# Altium integrated library NSC DAC.IntLib: 136 symbols (part 1 of 4)
Pins are listed as number, name and electrical type; pins without a type are passive.

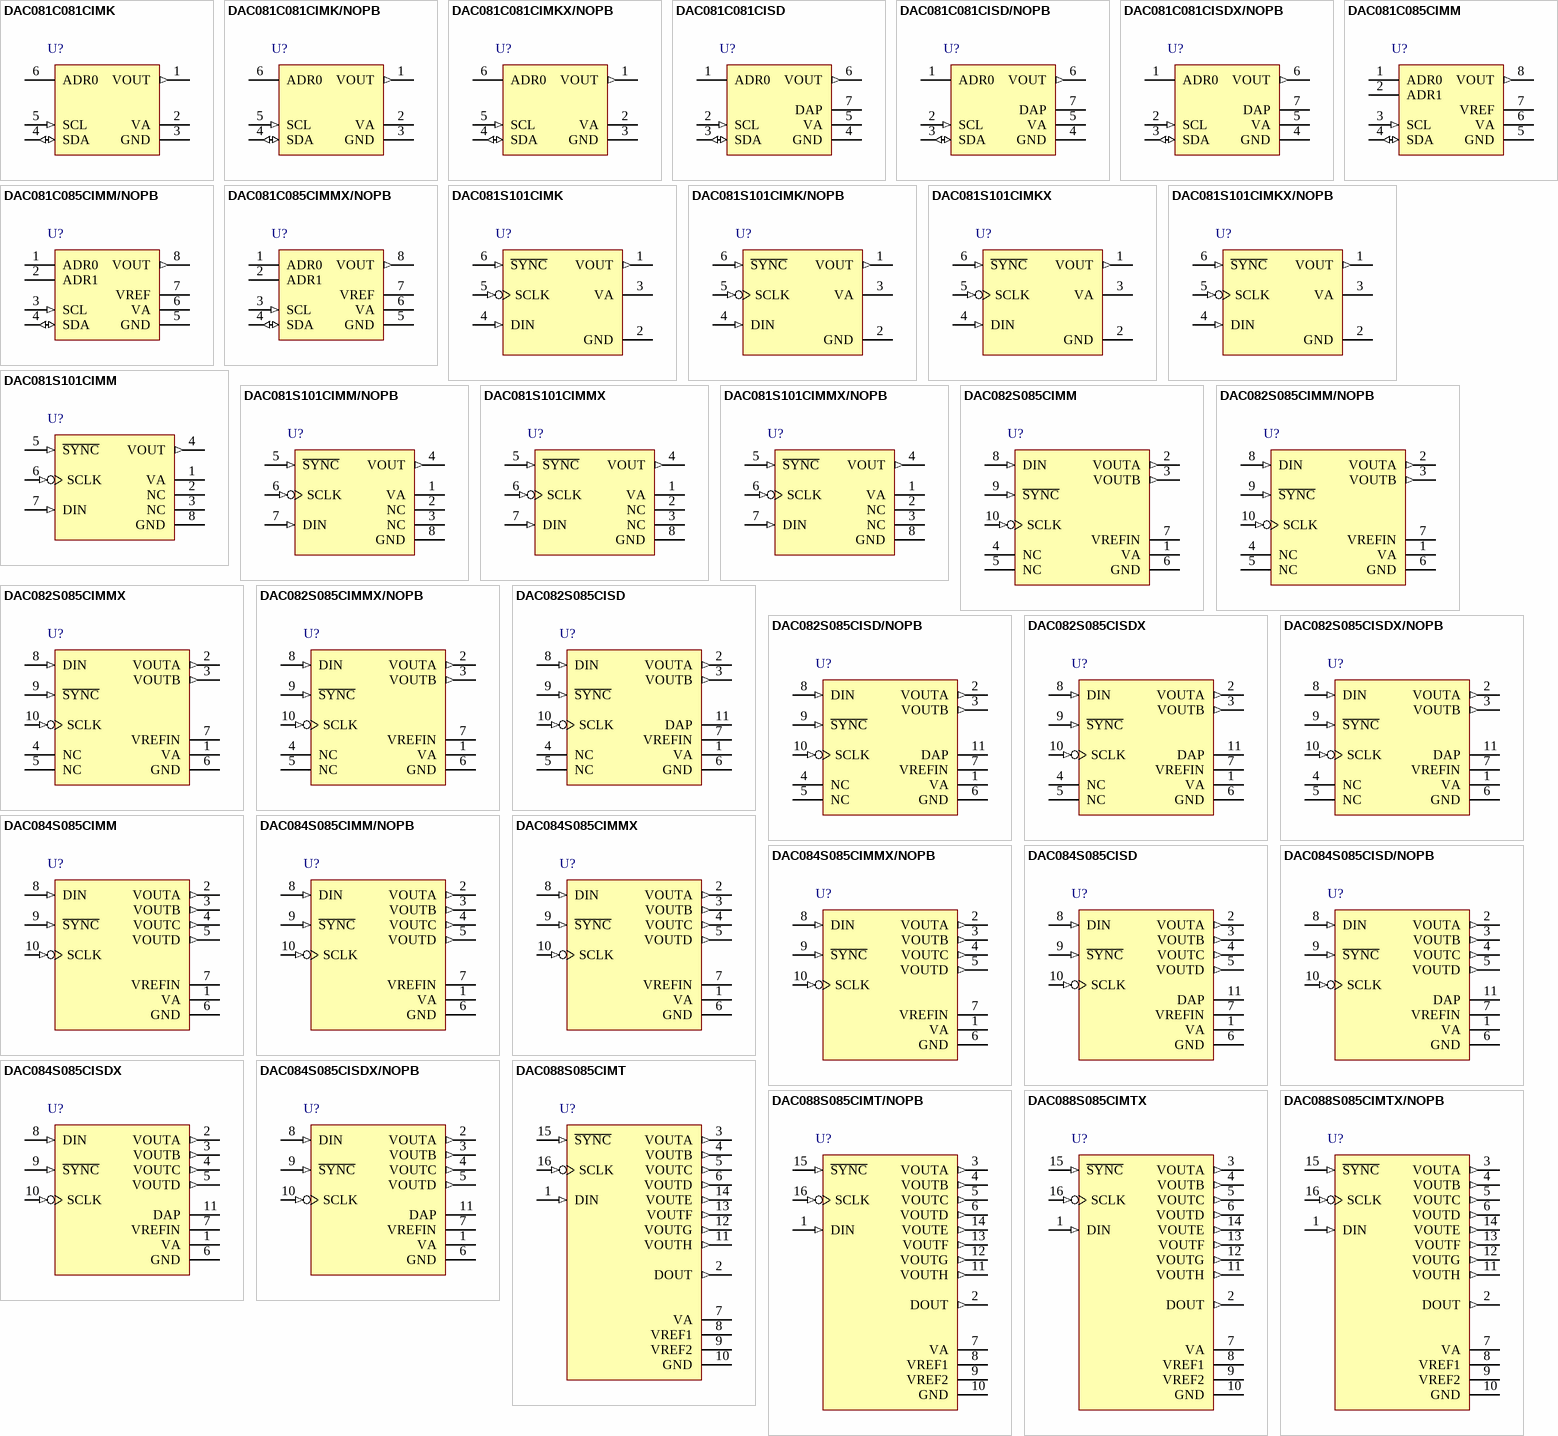
[diagram p0: symbols DAC081C081CIMK to DAC088S085CIMTX/NOPB]

## DAC081C081CIMK
designator U?
8-Bit Micro Power Digital-to-Analog Converter with an I2C-Compatible Interface, 6-pin Tiny SOT23; PartNumber: DAC081C081CIMK; Manufacturer: National Semiconductor; PackageTopMarking: X86C*XTT; PowerWise: N; CompType: D/A Converter; Published: 4-Dec-2008; DatasheetVersion: Apr-2008; PackageVersion: revE, Nov-2008; PackageReference: MK06A; Publisher: Altium Limited; PackageDescription: Molded TSOT, 2.97 x 1.65 x 0.87mm Body, 6 Lead, 0.95mm Pitch; RoHS: Y; PinCount: 6; Code_JEDEC: MO-193-AA; Code_IPC: SOT26A-6; ComponentLink1Description: DAC081C081 Datasheet; ComponentLink1URL: http://www.national.com/ds/DA/DAC081C081.pdf; ComponentLink2Description: DAC081C081 Web Page; ComponentLink2URL: http://www.national.com/pf/DA/DAC081C081.html; ComponentLink3Description: MK06A Package Page; ComponentLink3URL: http://www.national.com/packaging/folders/mk06a.html
footprint MK06A_N (SOT23, 6-Leads, Body 3.0x1.7mm, Pitch 0.95mm, Lead Span 2.9mm, IPC Medium Density)
footprint MK06A_L (SOT23, 6-Leads, Body 3.0x1.7mm, Pitch 0.95mm, Lead Span 2.9mm, IPC High Density)
footprint MK06A_M (SOT23, 6-Leads, Body 3.0x1.7mm, Pitch 0.95mm, Lead Span 2.9mm, IPC Low Density)
pins: 1 VOUT (out), 2 VA (power), 3 GND (power), 4 SDA (io), 5 SCL (in), 6 ADR0 (hiz)

## DAC081C081CIMK/NOPB
designator U?
8-Bit Micro Power Digital-to-Analog Converter with an I2C-Compatible Interface, 6-pin Tiny SOT23, Pb-Free; PartNumber: DAC081C081CIMK/NOPB; Manufacturer: National Semiconductor; PackageTopMarking: X86C*XTT; PowerWise: N; CompType: D/A Converter; Published: 1-Mar-2010; DatasheetVersion: Apr-2008; PackageVersion: revE, Nov-2008; PackageReference: MK06A; Publisher: Altium Limited; PackageDescription: Molded TSOT, 2.97 x 1.65 x 0.87mm Body, 6 Lead, 0.95mm Pitch; Supplier 1: Digi-Key; Supplier Part Number 1: DAC081C081CIMKTR-ND; Supplier 2: Digi-Key; Supplier Part Number 2: DAC081C081CIMKCT-ND; Supplier 3: Digi-Key; Supplier Part Number 3: DAC081C081CIMKDKR-ND; Supplier 4: Farnell; Supplier Part Number 4: 1685396; RoHS: Y; PinCount: 6; Code_JEDEC: MO-193-AA; Code_IPC: SOT26A-6; ComponentLink1Description: DAC081C081 Datasheet; ComponentLink1URL: http://www.national.com/ds/DA/DAC081C081.pdf; ComponentLink2Description: DAC081C081 Web Page; ComponentLink2URL: http://www.national.com/pf/DA/DAC081C081.html; ComponentLink3Description: MK06A Package Page; ComponentLink3URL: http://www.national.com/packaging/folders/mk06a.html
footprint MK06A_N (SOT23, 6-Leads, Body 3.0x1.7mm, Pitch 0.95mm, Lead Span 2.9mm, IPC Medium Density)
footprint MK06A_L (SOT23, 6-Leads, Body 3.0x1.7mm, Pitch 0.95mm, Lead Span 2.9mm, IPC High Density)
footprint MK06A_M (SOT23, 6-Leads, Body 3.0x1.7mm, Pitch 0.95mm, Lead Span 2.9mm, IPC Low Density)
pins: 1 VOUT (out), 2 VA (power), 3 GND (power), 4 SDA (io), 5 SCL (in), 6 ADR0 (hiz)

## DAC081C081CIMKX/NOPB
designator U?
8-Bit Micro Power Digital-to-Analog Converter with an I2C-Compatible Interface, 6-pin Tiny SOT23, Pb-Free; PartNumber: DAC081C081CIMKX/NOPB; Manufacturer: National Semiconductor; PackageTopMarking: X86C*XTT; PowerWise: N; CompType: D/A Converter; Published: 1-Mar-2010; DatasheetVersion: Apr-2008; PackageVersion: revE, Nov-2008; PackageReference: MK06A; Publisher: Altium Limited; PackageDescription: Molded TSOT, 2.97 x 1.65 x 0.87mm Body, 6 Lead, 0.95mm Pitch; Supplier 1: Digi-Key; Supplier Part Number 1: DAC081C081CIMKX-ND; RoHS: Y; PinCount: 6; Code_JEDEC: MO-193-AA; Code_IPC: SOT26A-6; ComponentLink1Description: DAC081C081 Datasheet; ComponentLink1URL: http://www.national.com/ds/DA/DAC081C081.pdf; ComponentLink2Description: DAC081C081 Web Page; ComponentLink2URL: http://www.national.com/pf/DA/DAC081C081.html; ComponentLink3Description: MK06A Package Page; ComponentLink3URL: http://www.national.com/packaging/folders/mk06a.html
footprint MK06A_N (SOT23, 6-Leads, Body 3.0x1.7mm, Pitch 0.95mm, Lead Span 2.9mm, IPC Medium Density)
footprint MK06A_L (SOT23, 6-Leads, Body 3.0x1.7mm, Pitch 0.95mm, Lead Span 2.9mm, IPC High Density)
footprint MK06A_M (SOT23, 6-Leads, Body 3.0x1.7mm, Pitch 0.95mm, Lead Span 2.9mm, IPC Low Density)
pins: 1 VOUT (out), 2 VA (power), 3 GND (power), 4 SDA (io), 5 SCL (in), 6 ADR0 (hiz)

## DAC081C081CISD
designator U?
8-Bit Micro Power Digital-to-Analog Converter with an I2C-Compatible Interface, 7-pin LLP; PartNumber: DAC081C081CISD; Manufacturer: National Semiconductor; PackageTopMarking: XTT*X89; PowerWise: N; CompType: D/A Converter; Published: 4-Dec-2008; DatasheetVersion: Apr-2008; PackageVersion: revA, Nov-2003; PackageReference: SDB06A; Publisher: Altium Limited; PackageDescription: LLP, Plastic, Dual, 2.2 x 2.5 x 0.8mm Body, 6 Lead, 0.65mm Pitch, No Pullback; RoHS: Y; PinCount: 7; ComponentLink1Description: DAC081C081 Datasheet; ComponentLink1URL: http://www.national.com/ds/DA/DAC081C081.pdf; ComponentLink2Description: DAC081C081 Web Page; ComponentLink2URL: http://www.national.com/pf/DA/DAC081C081.html; ComponentLink3Description: SDB06A Package Page; ComponentLink3URL: http://www.national.com/packaging/folders/sdb06a.html
footprint SDB06A (SON, 6-Leads, Body 2.2x2.5mm, Pitch 0.65mm, NSC Recommended (SC-70 Land))
pins: 1 ADR0 (hiz), 2 SCL (in), 3 SDA (io), 4 GND (power), 5 VA (power), 6 VOUT (out), 7 DAP (power)

## DAC081C081CISD/NOPB
designator U?
8-Bit Micro Power Digital-to-Analog Converter with an I2C-Compatible Interface, 6-pin LLP, Pb-Free; PartNumber: DAC081C081CISD/NOPB; Manufacturer: National Semiconductor; PackageTopMarking: XTT*X89; PowerWise: N; CompType: D/A Converter; Published: 1-Mar-2010; DatasheetVersion: Apr-2008; PackageVersion: revA, Nov-2003; PackageReference: SDB06A; Publisher: Altium Limited; PackageDescription: LLP, Plastic, Dual, 2.2 x 2.5 x 0.8mm Body, 6 Lead, 0.65mm Pitch, No Pullback; Supplier 1: Digi-Key; Supplier Part Number 1: DAC081C081CISDTR-ND; Supplier 2: Digi-Key; Supplier Part Number 2: DAC081C081CISDCT-ND; Supplier 3: Digi-Key; Supplier Part Number 3: DAC081C081CISDDKR-ND; RoHS: Y; PinCount: 6; ComponentLink1Description: DAC081C081 Datasheet; ComponentLink1URL: http://www.national.com/ds/DA/DAC081C081.pdf; ComponentLink2Description: DAC081C081 Web Page; ComponentLink2URL: http://www.national.com/pf/DA/DAC081C081.html; ComponentLink3Description: SDB06A Package Page; ComponentLink3URL: http://www.national.com/packaging/folders/sdb06a.html
footprint SDB06A (SON, 6-Leads, Body 2.2x2.5mm, Pitch 0.65mm, NSC Recommended (SC-70 Land))
pins: 1 ADR0 (hiz), 2 SCL (in), 3 SDA (io), 4 GND (power), 5 VA (power), 6 VOUT (out), 7 DAP (power)

## DAC081C081CISDX/NOPB
designator U?
8-Bit Micro Power Digital-to-Analog Converter with an I2C-Compatible Interface, 6-pin LLP, Pb-Free; PartNumber: DAC081C081CISDX/NOPB; Manufacturer: National Semiconductor; PackageTopMarking: XTT*X89; PowerWise: N; CompType: D/A Converter; Published: 1-Mar-2010; DatasheetVersion: Apr-2008; PackageVersion: revA, Nov-2003; PackageReference: SDB06A; Publisher: Altium Limited; PackageDescription: LLP, Plastic, Dual, 2.2 x 2.5 x 0.8mm Body, 6 Lead, 0.65mm Pitch, No Pullback; Supplier 1: Digi-Key; Supplier Part Number 1: DAC081C081CISDX-ND; RoHS: Y; PinCount: 6; ComponentLink1Description: DAC081C081 Datasheet; ComponentLink1URL: http://www.national.com/ds/DA/DAC081C081.pdf; ComponentLink2Description: DAC081C081 Web Page; ComponentLink2URL: http://www.national.com/pf/DA/DAC081C081.html; ComponentLink3Description: SDB06A Package Page; ComponentLink3URL: http://www.national.com/packaging/folders/sdb06a.html
footprint SDB06A (SON, 6-Leads, Body 2.2x2.5mm, Pitch 0.65mm, NSC Recommended (SC-70 Land))
pins: 1 ADR0 (hiz), 2 SCL (in), 3 SDA (io), 4 GND (power), 5 VA (power), 6 VOUT (out), 7 DAP (power)

## DAC081C085CIMM
designator U?
8-Bit Micro Power Digital-to-Analog Converter with an I2C-Compatible Interface and External Reference, 8-pin Mini SOIC; PartNumber: DAC081C085CIMM; Manufacturer: National Semiconductor; PackageTopMarking: ZXTT*X92C; PowerWise: N; CompType: D/A Converter; Published: 4-Dec-2008; DatasheetVersion: Apr-2008; PackageVersion: revF, Apr-2008; PackageReference: MUA08A; Publisher: Altium Limited; PackageDescription: MINI SOIC, .118 x .118 x .034in, 8 Lead, .0256in Pitch; RoHS: Y; PinCount: 8; Code_JEDEC: MO-187-AA; ComponentLink1Description: DAC081C085 Datasheet; ComponentLink1URL: http://www.national.com/ds/DA/DAC081C085.pdf; ComponentLink2Description: DAC081C085 Web Page; ComponentLink2URL: http://www.national.com/pf/DA/DAC081C085.html; ComponentLink3Description: MUA08A Package Page; ComponentLink3URL: http://www.national.com/packaging/folders/mua08a.html
footprint MUA08A_N (TSOP, 8-Leads, Body 3x3mm, Pitch 0.65mm, IPC Medium Density)
footprint MUA08A_L (TSOP, 8-Leads, Body 3x3mm, Pitch 0.65mm, IPC High Density)
footprint MUA08A_M (TSOP, 8-Leads, Body 3x3mm, Pitch 0.65mm, IPC Low Density)
pins: 1 ADR0 (hiz), 2 ADR1 (hiz), 3 SCL (in), 4 SDA (io), 5 GND (power), 6 VA (power), 7 VREF (power), 8 VOUT (out)

## DAC081C085CIMM/NOPB
designator U?
8-Bit Micro Power Digital-to-Analog Converter with an I2C-Compatible Interface and External Reference, 8-pin Mini SOIC, Pb-Free; PartNumber: DAC081C085CIMM/NOPB; Manufacturer: National Semiconductor; PackageTopMarking: ZXTT*X92C; PowerWise: N; CompType: D/A Converter; Published: 1-Mar-2010; DatasheetVersion: Apr-2008; PackageVersion: revF, Apr-2008; PackageReference: MUA08A; Publisher: Altium Limited; PackageDescription: MINI SOIC, .118 x .118 x .034in, 8 Lead, .0256in Pitch; Supplier 1: Digi-Key; Supplier Part Number 1: DAC081C085CIMMTR-ND; Supplier 2: Digi-Key; Supplier Part Number 2: DAC081C085CIMMCT-ND; Supplier 3: Digi-Key; Supplier Part Number 3: DAC081C085CIMMDKR-ND; Supplier 4: Farnell; Supplier Part Number 4: 1685397; RoHS: Y; PinCount: 8; Code_JEDEC: MO-187-AA; ComponentLink1Description: DAC081C085 Datasheet; ComponentLink1URL: http://www.national.com/ds/DA/DAC081C085.pdf; ComponentLink2Description: DAC081C085 Web Page; ComponentLink2URL: http://www.national.com/pf/DA/DAC081C085.html; ComponentLink3Description: MUA08A Package Page; ComponentLink3URL: http://www.national.com/packaging/folders/mua08a.html
footprint MUA08A_N (TSOP, 8-Leads, Body 3x3mm, Pitch 0.65mm, IPC Medium Density)
footprint MUA08A_L (TSOP, 8-Leads, Body 3x3mm, Pitch 0.65mm, IPC High Density)
footprint MUA08A_M (TSOP, 8-Leads, Body 3x3mm, Pitch 0.65mm, IPC Low Density)
pins: 1 ADR0 (hiz), 2 ADR1 (hiz), 3 SCL (in), 4 SDA (io), 5 GND (power), 6 VA (power), 7 VREF (power), 8 VOUT (out)

## DAC081C085CIMMX/NOPB
designator U?
8-Bit Micro Power Digital-to-Analog Converter with an I2C-Compatible Interface and External Reference, 8-pin Mini SOIC, Pb-Free; PartNumber: DAC081C085CIMMX/NOPB; Manufacturer: National Semiconductor; PackageTopMarking: ZXTT*X92C; PowerWise: N; CompType: D/A Converter; Published: 1-Mar-2010; DatasheetVersion: Apr-2008; PackageVersion: revF, Apr-2008; PackageReference: MUA08A; Publisher: Altium Limited; PackageDescription: MINI SOIC, .118 x .118 x .034in, 8 Lead, .0256in Pitch; Supplier 1: Digi-Key; Supplier Part Number 1: DAC081C085CIMMX-ND; RoHS: Y; PinCount: 8; Code_JEDEC: MO-187-AA; ComponentLink1Description: DAC081C085 Datasheet; ComponentLink1URL: http://www.national.com/ds/DA/DAC081C085.pdf; ComponentLink2Description: DAC081C085 Web Page; ComponentLink2URL: http://www.national.com/pf/DA/DAC081C085.html; ComponentLink3Description: MUA08A Package Page; ComponentLink3URL: http://www.national.com/packaging/folders/mua08a.html
footprint MUA08A_N (TSOP, 8-Leads, Body 3x3mm, Pitch 0.65mm, IPC Medium Density)
footprint MUA08A_L (TSOP, 8-Leads, Body 3x3mm, Pitch 0.65mm, IPC High Density)
footprint MUA08A_M (TSOP, 8-Leads, Body 3x3mm, Pitch 0.65mm, IPC Low Density)
pins: 1 ADR0 (hiz), 2 ADR1 (hiz), 3 SCL (in), 4 SDA (io), 5 GND (power), 6 VA (power), 7 VREF (power), 8 VOUT (out)

## DAC081S101CIMK
designator U?
8-Bit Micro Power Digital-to-Analog Converter with Rail-to-Rail Output, 6-pin Tiny SOT23; PartNumber: DAC081S101CIMK; Manufacturer: National Semiconductor; PackageTopMarking: X65C*XTT; PowerWise: Y; CompType: D/A Converter; Published: 4-Dec-2008; DatasheetVersion: Dec-2008; PackageVersion: revE, Nov-2008; PackageReference: MK06A; Publisher: Altium Limited; PackageDescription: Molded TSOT, 2.97 x 1.65 x 0.87mm Body, 6 Lead, 0.95mm Pitch; Supplier 1: Farnell; Supplier Part Number 1: 1101193; RoHS: N; PinCount: 6; Code_JEDEC: MO-193-AA; Code_IPC: SOT26A-6; ComponentLink1Description: DAC081S101 Datasheet; ComponentLink1URL: http://www.national.com/ds/DA/DAC081S101.pdf; ComponentLink2Description: DAC081S101 Web Page; ComponentLink2URL: http://www.national.com/pf/DA/DAC081S101.html; ComponentLink3Description: MK06A Package Page; ComponentLink3URL: http://www.national.com/packaging/folders/mk06a.html
footprint MK06A_N (SOT23, 6-Leads, Body 3.0x1.7mm, Pitch 0.95mm, Lead Span 2.9mm, IPC Medium Density)
footprint MK06A_L (SOT23, 6-Leads, Body 3.0x1.7mm, Pitch 0.95mm, Lead Span 2.9mm, IPC High Density)
footprint MK06A_M (SOT23, 6-Leads, Body 3.0x1.7mm, Pitch 0.95mm, Lead Span 2.9mm, IPC Low Density)
pins: 1 VOUT (out), 2 GND (power), 3 VA (power), 4 DIN (in), 5 SCLK (in), 6 ~{SYNC} (in)

## DAC081S101CIMK/NOPB
designator U?
8-Bit Micro Power Digital-to-Analog Converter with Rail-to-Rail Output, 6-pin Tiny SOT23, Pb-Free; PartNumber: DAC081S101CIMK/NOPB; Manufacturer: National Semiconductor; PackageTopMarking: X65C*XTT; PowerWise: Y; CompType: D/A Converter; Published: 1-Mar-2010; DatasheetVersion: Dec-2008; PackageVersion: revE, Nov-2008; PackageReference: MK06A; Publisher: Altium Limited; PackageDescription: Molded TSOT, 2.97 x 1.65 x 0.87mm Body, 6 Lead, 0.95mm Pitch; Supplier 1: Digi-Key; Supplier Part Number 1: DAC081S101CIMKTR-ND; Supplier 2: Digi-Key; Supplier Part Number 2: DAC081S101CIMKCT-ND; Supplier 3: Digi-Key; Supplier Part Number 3: DAC081S101CIMKDKR-ND; Supplier 4: Farnell; Supplier Part Number 4: 1685344; RoHS: Y; PinCount: 6; Code_JEDEC: MO-193-AA; Code_IPC: SOT26A-6; ComponentLink1Description: DAC081S101 Datasheet; ComponentLink1URL: http://www.national.com/ds/DA/DAC081S101.pdf; ComponentLink2Description: DAC081S101 Web Page; ComponentLink2URL: http://www.national.com/pf/DA/DAC081S101.html; ComponentLink3Description: MK06A Package Page; ComponentLink3URL: http://www.national.com/packaging/folders/mk06a.html
footprint MK06A_N (SOT23, 6-Leads, Body 3.0x1.7mm, Pitch 0.95mm, Lead Span 2.9mm, IPC Medium Density)
footprint MK06A_L (SOT23, 6-Leads, Body 3.0x1.7mm, Pitch 0.95mm, Lead Span 2.9mm, IPC High Density)
footprint MK06A_M (SOT23, 6-Leads, Body 3.0x1.7mm, Pitch 0.95mm, Lead Span 2.9mm, IPC Low Density)
pins: 1 VOUT (out), 2 GND (power), 3 VA (power), 4 DIN (in), 5 SCLK (in), 6 ~{SYNC} (in)

## DAC081S101CIMKX
designator U?
8-Bit Micro Power Digital-to-Analog Converter with Rail-to-Rail Output, 6-pin Tiny SOT23; PartNumber: DAC081S101CIMKX; Manufacturer: National Semiconductor; PackageTopMarking: X65C*XTT; PowerWise: Y; CompType: D/A Converter; Published: 1-Mar-2010; DatasheetVersion: Dec-2008; PackageVersion: revE, Nov-2008; PackageReference: MK06A; Publisher: Altium Limited; PackageDescription: Molded TSOT, 2.97 x 1.65 x 0.87mm Body, 6 Lead, 0.95mm Pitch; RoHS: N; PinCount: 6; Code_JEDEC: MO-193-AA; Code_IPC: SOT26A-6; ComponentLink1Description: DAC081S101 Datasheet; ComponentLink1URL: http://www.national.com/ds/DA/DAC081S101.pdf; ComponentLink2Description: DAC081S101 Web Page; ComponentLink2URL: http://www.national.com/pf/DA/DAC081S101.html; ComponentLink3Description: MK06A Package Page; ComponentLink3URL: http://www.national.com/packaging/folders/mk06a.html
footprint MK06A_N (SOT23, 6-Leads, Body 3.0x1.7mm, Pitch 0.95mm, Lead Span 2.9mm, IPC Medium Density)
footprint MK06A_L (SOT23, 6-Leads, Body 3.0x1.7mm, Pitch 0.95mm, Lead Span 2.9mm, IPC High Density)
footprint MK06A_M (SOT23, 6-Leads, Body 3.0x1.7mm, Pitch 0.95mm, Lead Span 2.9mm, IPC Low Density)
pins: 1 VOUT (out), 2 GND (power), 3 VA (power), 4 DIN (in), 5 SCLK (in), 6 ~{SYNC} (in)

## DAC081S101CIMKX/NOPB
designator U?
8-Bit Micro Power Digital-to-Analog Converter with Rail-to-Rail Output, 6-pin Tiny SOT23, Pb-Free; PartNumber: DAC081S101CIMKX/NOPB; Manufacturer: National Semiconductor; PackageTopMarking: X65C*XTT; PowerWise: Y; CompType: D/A Converter; Published: 1-Mar-2010; DatasheetVersion: Dec-2008; PackageVersion: revE, Nov-2008; PackageReference: MK06A; Publisher: Altium Limited; PackageDescription: Molded TSOT, 2.97 x 1.65 x 0.87mm Body, 6 Lead, 0.95mm Pitch; Supplier 1: Digi-Key; Supplier Part Number 1: DAC081S101CIMKX-ND; RoHS: Y; PinCount: 6; Code_JEDEC: MO-193-AA; Code_IPC: SOT26A-6; ComponentLink1Description: DAC081S101 Datasheet; ComponentLink1URL: http://www.national.com/ds/DA/DAC081S101.pdf; ComponentLink2Description: DAC081S101 Web Page; ComponentLink2URL: http://www.national.com/pf/DA/DAC081S101.html; ComponentLink3Description: MK06A Package Page; ComponentLink3URL: http://www.national.com/packaging/folders/mk06a.html
footprint MK06A_N (SOT23, 6-Leads, Body 3.0x1.7mm, Pitch 0.95mm, Lead Span 2.9mm, IPC Medium Density)
footprint MK06A_L (SOT23, 6-Leads, Body 3.0x1.7mm, Pitch 0.95mm, Lead Span 2.9mm, IPC High Density)
footprint MK06A_M (SOT23, 6-Leads, Body 3.0x1.7mm, Pitch 0.95mm, Lead Span 2.9mm, IPC Low Density)
pins: 1 VOUT (out), 2 GND (power), 3 VA (power), 4 DIN (in), 5 SCLK (in), 6 ~{SYNC} (in)

## DAC081S101CIMM
designator U?
8-Bit Micro Power Digital-to-Analog Converter with Rail-to-Rail Output, 8-pin Mini SOIC; PartNumber: DAC081S101CIMM; Manufacturer: National Semiconductor; PackageTopMarking: ZXTT*X64C; PowerWise: Y; CompType: D/A Converter; Published: 4-Dec-2008; DatasheetVersion: Dec-2008; PackageVersion: revF, Apr-2008; PackageReference: MUA08A; Publisher: Altium Limited; PackageDescription: MINI SOIC, .118 x .118 x .034in, 8 Lead, .0256in Pitch; Supplier 1: Farnell; Supplier Part Number 1: 1101194; RoHS: N; PinCount: 8; Code_JEDEC: MO-187-AA; ComponentLink1Description: DAC081S101 Datasheet; ComponentLink1URL: http://www.national.com/ds/DA/DAC081S101.pdf; ComponentLink2Description: DAC081S101 Web Page; ComponentLink2URL: http://www.national.com/pf/DA/DAC081S101.html; ComponentLink3Description: MUA08A Package Page; ComponentLink3URL: http://www.national.com/packaging/folders/mua08a.html
footprint MUA08A_N (TSOP, 8-Leads, Body 3x3mm, Pitch 0.65mm, IPC Medium Density)
footprint MUA08A_L (TSOP, 8-Leads, Body 3x3mm, Pitch 0.65mm, IPC High Density)
footprint MUA08A_M (TSOP, 8-Leads, Body 3x3mm, Pitch 0.65mm, IPC Low Density)
pins: 1 VA (power), 2 NC, 3 NC, 4 VOUT (out), 5 ~{SYNC} (in), 6 SCLK (in), 7 DIN (in), 8 GND (power)

## DAC081S101CIMM/NOPB
designator U?
8-Bit Micro Power Digital-to-Analog Converter with Rail-to-Rail Output, 8-pin Mini SOIC, Pb-Free; PartNumber: DAC081S101CIMM/NOPB; Manufacturer: National Semiconductor; PackageTopMarking: ZXTT*X64C; PowerWise: Y; CompType: D/A Converter; Published: 1-Mar-2010; DatasheetVersion: Dec-2008; PackageVersion: revF, Apr-2008; PackageReference: MUA08A; Publisher: Altium Limited; PackageDescription: MINI SOIC, .118 x .118 x .034in, 8 Lead, .0256in Pitch; Supplier 1: Digi-Key; Supplier Part Number 1: DAC081S101CIMMTR-ND; Supplier 2: Digi-Key; Supplier Part Number 2: DAC081S101CIMMCT-ND; Supplier 3: Digi-Key; Supplier Part Number 3: DAC081S101CIMMDKR-ND; Supplier 4: Farnell; Supplier Part Number 4: 1559745; RoHS: Y; PinCount: 8; Code_JEDEC: MO-187-AA; ComponentLink1Description: DAC081S101 Datasheet; ComponentLink1URL: http://www.national.com/ds/DA/DAC081S101.pdf; ComponentLink2Description: DAC081S101 Web Page; ComponentLink2URL: http://www.national.com/pf/DA/DAC081S101.html; ComponentLink3Description: MUA08A Package Page; ComponentLink3URL: http://www.national.com/packaging/folders/mua08a.html
footprint MUA08A_N (TSOP, 8-Leads, Body 3x3mm, Pitch 0.65mm, IPC Medium Density)
footprint MUA08A_L (TSOP, 8-Leads, Body 3x3mm, Pitch 0.65mm, IPC High Density)
footprint MUA08A_M (TSOP, 8-Leads, Body 3x3mm, Pitch 0.65mm, IPC Low Density)
pins: 1 VA (power), 2 NC, 3 NC, 4 VOUT (out), 5 ~{SYNC} (in), 6 SCLK (in), 7 DIN (in), 8 GND (power)

## DAC081S101CIMMX
designator U?
8-Bit Micro Power Digital-to-Analog Converter with Rail-to-Rail Output, 8-pin Mini SOIC; PartNumber: DAC081S101CIMMX; Manufacturer: National Semiconductor; PackageTopMarking: ZXTT*X64C; PowerWise: Y; CompType: D/A Converter; Published: 1-Mar-2010; DatasheetVersion: Dec-2008; PackageVersion: revF, Apr-2008; PackageReference: MUA08A; Publisher: Altium Limited; PackageDescription: MINI SOIC, .118 x .118 x .034in, 8 Lead, .0256in Pitch; RoHS: N; PinCount: 8; Code_JEDEC: MO-187-AA; ComponentLink1Description: DAC081S101 Datasheet; ComponentLink1URL: http://www.national.com/ds/DA/DAC081S101.pdf; ComponentLink2Description: DAC081S101 Web Page; ComponentLink2URL: http://www.national.com/pf/DA/DAC081S101.html; ComponentLink3Description: MUA08A Package Page; ComponentLink3URL: http://www.national.com/packaging/folders/mua08a.html
footprint MUA08A_N (TSOP, 8-Leads, Body 3x3mm, Pitch 0.65mm, IPC Medium Density)
footprint MUA08A_L (TSOP, 8-Leads, Body 3x3mm, Pitch 0.65mm, IPC High Density)
footprint MUA08A_M (TSOP, 8-Leads, Body 3x3mm, Pitch 0.65mm, IPC Low Density)
pins: 1 VA (power), 2 NC, 3 NC, 4 VOUT (out), 5 ~{SYNC} (in), 6 SCLK (in), 7 DIN (in), 8 GND (power)

## DAC081S101CIMMX/NOPB
designator U?
8-Bit Micro Power Digital-to-Analog Converter with Rail-to-Rail Output, 8-pin Mini SOIC, Pb-Free; PartNumber: DAC081S101CIMMX/NOPB; Manufacturer: National Semiconductor; PackageTopMarking: ZXTT*X64C; PowerWise: Y; CompType: D/A Converter; Published: 1-Mar-2010; DatasheetVersion: Dec-2008; PackageVersion: revF, Apr-2008; PackageReference: MUA08A; Publisher: Altium Limited; PackageDescription: MINI SOIC, .118 x .118 x .034in, 8 Lead, .0256in Pitch; Supplier 1: Digi-Key; Supplier Part Number 1: DAC081S101CIMMX-ND; RoHS: Y; PinCount: 8; Code_JEDEC: MO-187-AA; ComponentLink1Description: DAC081S101 Datasheet; ComponentLink1URL: http://www.national.com/ds/DA/DAC081S101.pdf; ComponentLink2Description: DAC081S101 Web Page; ComponentLink2URL: http://www.national.com/pf/DA/DAC081S101.html; ComponentLink3Description: MUA08A Package Page; ComponentLink3URL: http://www.national.com/packaging/folders/mua08a.html
footprint MUA08A_N (TSOP, 8-Leads, Body 3x3mm, Pitch 0.65mm, IPC Medium Density)
footprint MUA08A_L (TSOP, 8-Leads, Body 3x3mm, Pitch 0.65mm, IPC High Density)
footprint MUA08A_M (TSOP, 8-Leads, Body 3x3mm, Pitch 0.65mm, IPC Low Density)
pins: 1 VA (power), 2 NC, 3 NC, 4 VOUT (out), 5 ~{SYNC} (in), 6 SCLK (in), 7 DIN (in), 8 GND (power)

## DAC082S085CIMM
designator U?
8-Bit Micro Power DUAL Digital-to-Analog Converter with Rail-to-Rail Output, 10-pin MSOP; PartNumber: DAC082S085CIMM; Manufacturer: National Semiconductor; PackageTopMarking: ZXTT*X76C; PowerWise: Y; CompType: D/A Converter; Published: 4-Dec-2008; DatasheetVersion: Nov-2008; PackageVersion: revB, Jul-2003; PackageReference: MUB10A; Publisher: Altium Limited; PackageDescription: Mini-SO, Molded, .118 x .118 x .034in Body, 10 Lead, .0197in Pitch; Supplier 1: Farnell; Supplier Part Number 1: 1312535; RoHS: N; PinCount: 10; Code_JEDEC: MO-187-BA; ComponentLink1Description: DAC082S085 Datasheet; ComponentLink1URL: http://www.national.com/ds/DA/DAC082S085.pdf; ComponentLink2Description: DAC082S085 Web Page; ComponentLink2URL: http://www.national.com/pf/DA/DAC082S085.html; ComponentLink3Description: MUB10A Package Page; ComponentLink3URL: http://www.national.com/packaging/folders/mub10a.html
footprint MUB10A_N (TSSOP, 10-Leads, Body 3x3mm, Pitch 0.5mm, IPC Medium Density)
footprint MUB10A_L (TSSOP, 10-Leads, Body 3x3mm, Pitch 0.5mm, IPC High Density)
footprint MUB10A_M (TSSOP, 10-Leads, Body 3x3mm, Pitch 0.5mm, IPC Low Density)
pins: 1 VA (power), 2 VOUTA (out), 3 VOUTB (out), 4 NC, 5 NC, 6 GND (power), 7 VREFIN (power), 8 DIN (in), 9 ~{SYNC} (in), 10 SCLK (in)

## DAC082S085CIMM/NOPB
designator U?
8-Bit Micro Power DUAL Digital-to-Analog Converter with Rail-to-Rail Output, 10-pin Mini SOIC, Pb-Free; PartNumber: DAC082S085CIMM/NOPB; Manufacturer: National Semiconductor; PackageTopMarking: ZXTT*X76C; PowerWise: Y; CompType: D/A Converter; Published: 1-Mar-2010; DatasheetVersion: Nov-2008; PackageVersion: revB, Jul-2003; PackageReference: MUB10A; Publisher: Altium Limited; PackageDescription: Mini-SO, Molded, .118 x .118 x .034in Body, 10 Lead, .0197in Pitch; Supplier 1: Digi-Key; Supplier Part Number 1: DAC082S085CIMMTR-ND; Supplier 2: Digi-Key; Supplier Part Number 2: DAC082S085CIMMCT-ND; Supplier 3: Digi-Key; Supplier Part Number 3: DAC082S085CIMMDKR-ND; Supplier 4: Farnell; Supplier Part Number 4: 1559239; RoHS: Y; PinCount: 10; Code_JEDEC: MO-187-BA; ComponentLink1Description: DAC082S085 Datasheet; ComponentLink1URL: http://www.national.com/ds/DA/DAC082S085.pdf; ComponentLink2Description: DAC082S085 Web Page; ComponentLink2URL: http://www.national.com/pf/DA/DAC082S085.html; ComponentLink3Description: MUB10A Package Page; ComponentLink3URL: http://www.national.com/packaging/folders/mub10a.html
footprint MUB10A_N (TSSOP, 10-Leads, Body 3x3mm, Pitch 0.5mm, IPC Medium Density)
footprint MUB10A_L (TSSOP, 10-Leads, Body 3x3mm, Pitch 0.5mm, IPC High Density)
footprint MUB10A_M (TSSOP, 10-Leads, Body 3x3mm, Pitch 0.5mm, IPC Low Density)
pins: 1 VA (power), 2 VOUTA (out), 3 VOUTB (out), 4 NC, 5 NC, 6 GND (power), 7 VREFIN (power), 8 DIN (in), 9 ~{SYNC} (in), 10 SCLK (in)

## DAC082S085CIMMX
designator U?
8-Bit Micro Power DUAL Digital-to-Analog Converter with Rail-to-Rail Output, 10-pin Mini SOIC; PartNumber: DAC082S085CIMMX; Manufacturer: National Semiconductor; PackageTopMarking: ZXTT*X76C; PowerWise: Y; CompType: D/A Converter; Published: 1-Mar-2010; DatasheetVersion: Nov-2008; PackageVersion: revB, Jul-2003; PackageReference: MUB10A; Publisher: Altium Limited; PackageDescription: Mini-SO, Molded, .118 x .118 x .034in Body, 10 Lead, .0197in Pitch; RoHS: N; PinCount: 10; Code_JEDEC: MO-187-BA; ComponentLink1Description: DAC082S085 Datasheet; ComponentLink1URL: http://www.national.com/ds/DA/DAC082S085.pdf; ComponentLink2Description: DAC082S085 Web Page; ComponentLink2URL: http://www.national.com/pf/DA/DAC082S085.html; ComponentLink3Description: MUB10A Package Page; ComponentLink3URL: http://www.national.com/packaging/folders/mub10a.html
footprint MUB10A_N (TSSOP, 10-Leads, Body 3x3mm, Pitch 0.5mm, IPC Medium Density)
footprint MUB10A_L (TSSOP, 10-Leads, Body 3x3mm, Pitch 0.5mm, IPC High Density)
footprint MUB10A_M (TSSOP, 10-Leads, Body 3x3mm, Pitch 0.5mm, IPC Low Density)
pins: 1 VA (power), 2 VOUTA (out), 3 VOUTB (out), 4 NC, 5 NC, 6 GND (power), 7 VREFIN (power), 8 DIN (in), 9 ~{SYNC} (in), 10 SCLK (in)

## DAC082S085CIMMX/NOPB
designator U?
8-Bit Micro Power DUAL Digital-to-Analog Converter with Rail-to-Rail Output, 10-pin Mini SOIC, Pb-Free; PartNumber: DAC082S085CIMMX/NOPB; Manufacturer: National Semiconductor; PackageTopMarking: ZXTT*X76C; PowerWise: Y; CompType: D/A Converter; Published: 1-Mar-2010; DatasheetVersion: Nov-2008; PackageVersion: revB, Jul-2003; PackageReference: MUB10A; Publisher: Altium Limited; PackageDescription: Mini-SO, Molded, .118 x .118 x .034in Body, 10 Lead, .0197in Pitch; Supplier 1: Digi-Key; Supplier Part Number 1: DAC082S085CIMMX-ND; RoHS: Y; PinCount: 10; Code_JEDEC: MO-187-BA; ComponentLink1Description: DAC082S085 Datasheet; ComponentLink1URL: http://www.national.com/ds/DA/DAC082S085.pdf; ComponentLink2Description: DAC082S085 Web Page; ComponentLink2URL: http://www.national.com/pf/DA/DAC082S085.html; ComponentLink3Description: MUB10A Package Page; ComponentLink3URL: http://www.national.com/packaging/folders/mub10a.html
footprint MUB10A_N (TSSOP, 10-Leads, Body 3x3mm, Pitch 0.5mm, IPC Medium Density)
footprint MUB10A_L (TSSOP, 10-Leads, Body 3x3mm, Pitch 0.5mm, IPC High Density)
footprint MUB10A_M (TSSOP, 10-Leads, Body 3x3mm, Pitch 0.5mm, IPC Low Density)
pins: 1 VA (power), 2 VOUTA (out), 3 VOUTB (out), 4 NC, 5 NC, 6 GND (power), 7 VREFIN (power), 8 DIN (in), 9 ~{SYNC} (in), 10 SCLK (in)

## DAC082S085CISD
designator U?
8-Bit Micro Power DUAL Digital-to-Analog Converter with Rail-to-Rail Output, 11-pin LLP; PartNumber: DAC082S085CISD; Manufacturer: National Semiconductor; PackageTopMarking: ZXYTT*X77C; PowerWise: Y; CompType: D/A Converter; Published: 4-Dec-2008; DatasheetVersion: Nov-2008; PackageVersion: revA, Oct-2003; PackageReference: SDA10A; Publisher: Altium Limited; PackageDescription: LLP, Plastic, Dual, 3 x 3 x 0.8mm Body, 10 Lead, 0.5mm Pitch, No Pullback; RoHS: N; PinCount: 11; ComponentLink1Description: DAC082S085 Datasheet; ComponentLink1URL: http://www.national.com/ds/DA/DAC082S085.pdf; ComponentLink2Description: DAC082S085 Web Page; ComponentLink2URL: http://www.national.com/pf/DA/DAC082S085.html; ComponentLink3Description: SDA10A Package Page; ComponentLink3URL: http://www.national.com/packaging/folders/sda10a.html
footprint SDA10A (SON, 10-Leads, Body 3x3 mm, Pitch 0.5mm, NSC Recommended)
pins: 1 VA (power), 2 VOUTA (out), 3 VOUTB (out), 4 NC, 5 NC, 6 GND (power), 7 VREFIN (power), 8 DIN (in), 9 ~{SYNC} (in), 10 SCLK (in), 11 DAP (power)

## DAC082S085CISD/NOPB
designator U?
8-Bit Micro Power DUAL Digital-to-Analog Converter with Rail-to-Rail Output, 10-pin LLP, Pb-Free; PartNumber: DAC082S085CISD/NOPB; Manufacturer: National Semiconductor; PackageTopMarking: ZXYTT*X77C; PowerWise: Y; CompType: D/A Converter; Published: 1-Mar-2010; DatasheetVersion: Nov-2008; PackageVersion: revA, Oct-2003; PackageReference: SDA10A; Publisher: Altium Limited; PackageDescription: LLP, Plastic, Dual, 3 x 3 x 0.8mm Body, 10 Lead, 0.5mm Pitch, No Pullback; Supplier 1: Digi-Key; Supplier Part Number 1: DAC082S085CISDTR-ND; Supplier 2: Digi-Key; Supplier Part Number 2: DAC082S085CISDCT-ND; Supplier 3: Digi-Key; Supplier Part Number 3: DAC082S085CISDDKR-ND; RoHS: Y; PinCount: 10; ComponentLink1Description: DAC082S085 Datasheet; ComponentLink1URL: http://www.national.com/ds/DA/DAC082S085.pdf; ComponentLink2Description: DAC082S085 Web Page; ComponentLink2URL: http://www.national.com/pf/DA/DAC082S085.html; ComponentLink3Description: SDA10A Package Page; ComponentLink3URL: http://www.national.com/packaging/folders/sda10a.html
footprint SDA10A (SON, 10-Leads, Body 3x3 mm, Pitch 0.5mm, NSC Recommended)
pins: 1 VA (power), 2 VOUTA (out), 3 VOUTB (out), 4 NC, 5 NC, 6 GND (power), 7 VREFIN (power), 8 DIN (in), 9 ~{SYNC} (in), 10 SCLK (in), 11 DAP (power)

## DAC082S085CISDX
designator U?
8-Bit Micro Power DUAL Digital-to-Analog Converter with Rail-to-Rail Output, 10-pin LLP; PartNumber: DAC082S085CISDX; Manufacturer: National Semiconductor; PackageTopMarking: ZXYTT*X77C; PowerWise: Y; CompType: D/A Converter; Published: 1-Mar-2010; DatasheetVersion: Nov-2008; PackageVersion: revA, Oct-2003; PackageReference: SDA10A; Publisher: Altium Limited; PackageDescription: LLP, Plastic, Dual, 3 x 3 x 0.8mm Body, 10 Lead, 0.5mm Pitch, No Pullback; RoHS: N; PinCount: 10; ComponentLink1Description: DAC082S085 Datasheet; ComponentLink1URL: http://www.national.com/ds/DA/DAC082S085.pdf; ComponentLink2Description: DAC082S085 Web Page; ComponentLink2URL: http://www.national.com/pf/DA/DAC082S085.html; ComponentLink3Description: SDA10A Package Page; ComponentLink3URL: http://www.national.com/packaging/folders/sda10a.html
footprint SDA10A (SON, 10-Leads, Body 3x3 mm, Pitch 0.5mm, NSC Recommended)
pins: 1 VA (power), 2 VOUTA (out), 3 VOUTB (out), 4 NC, 5 NC, 6 GND (power), 7 VREFIN (power), 8 DIN (in), 9 ~{SYNC} (in), 10 SCLK (in), 11 DAP (power)

## DAC082S085CISDX/NOPB
designator U?
8-Bit Micro Power DUAL Digital-to-Analog Converter with Rail-to-Rail Output, 10-pin LLP, Pb-Free; PartNumber: DAC082S085CISDX/NOPB; Manufacturer: National Semiconductor; PackageTopMarking: ZXYTT*X77C; PowerWise: Y; CompType: D/A Converter; Published: 1-Mar-2010; DatasheetVersion: Nov-2008; PackageVersion: revA, Oct-2003; PackageReference: SDA10A; Publisher: Altium Limited; PackageDescription: LLP, Plastic, Dual, 3 x 3 x 0.8mm Body, 10 Lead, 0.5mm Pitch, No Pullback; Supplier 1: Digi-Key; Supplier Part Number 1: DAC082S085CISDX-ND; RoHS: Y; PinCount: 10; ComponentLink1Description: DAC082S085 Datasheet; ComponentLink1URL: http://www.national.com/ds/DA/DAC082S085.pdf; ComponentLink2Description: DAC082S085 Web Page; ComponentLink2URL: http://www.national.com/pf/DA/DAC082S085.html; ComponentLink3Description: SDA10A Package Page; ComponentLink3URL: http://www.national.com/packaging/folders/sda10a.html
footprint SDA10A (SON, 10-Leads, Body 3x3 mm, Pitch 0.5mm, NSC Recommended)
pins: 1 VA (power), 2 VOUTA (out), 3 VOUTB (out), 4 NC, 5 NC, 6 GND (power), 7 VREFIN (power), 8 DIN (in), 9 ~{SYNC} (in), 10 SCLK (in), 11 DAP (power)

## DAC084S085CIMM
designator U?
8-Bit Micro Power QUAD Digital-to-Analog Converter with Rail-to-Rail Output, 10-pin MSOP; PartNumber: DAC084S085CIMM; Manufacturer: National Semiconductor; PackageTopMarking: ZXTT*X70C; PowerWise: Y; CompType: D/A Converter; Published: 4-Dec-2008; DatasheetVersion: Nov-2008; PackageVersion: revB, Jul-2003; PackageReference: MUB10A; Publisher: Altium Limited; PackageDescription: Mini-SO, Molded, .118 x .118 x .034in Body, 10 Lead, .0197in Pitch; Supplier 1: Farnell; Supplier Part Number 1: 1312536; RoHS: N; PinCount: 10; Code_JEDEC: MO-187-BA; ComponentLink1Description: DAC084S085 Datasheet; ComponentLink1URL: http://www.national.com/ds/DA/DAC084S085.pdf; ComponentLink2Description: DAC084S085 Web Page; ComponentLink2URL: http://www.national.com/pf/DA/DAC084S085.html; ComponentLink3Description: MUB10A Package Page; ComponentLink3URL: http://www.national.com/packaging/folders/mub10a.html
footprint MUB10A_N (TSSOP, 10-Leads, Body 3x3mm, Pitch 0.5mm, IPC Medium Density)
footprint MUB10A_L (TSSOP, 10-Leads, Body 3x3mm, Pitch 0.5mm, IPC High Density)
footprint MUB10A_M (TSSOP, 10-Leads, Body 3x3mm, Pitch 0.5mm, IPC Low Density)
pins: 1 VA (power), 2 VOUTA (out), 3 VOUTB (out), 4 VOUTC (out), 5 VOUTD (out), 6 GND (power), 7 VREFIN (power), 8 DIN (in), 9 ~{SYNC} (in), 10 SCLK (in)

## DAC084S085CIMM/NOPB
designator U?
8-Bit Micro Power QUAD Digital-to-Analog Converter with Rail-to-Rail Output, 10-pin Mini SOIC, Pb-Free; PartNumber: DAC084S085CIMM/NOPB; Manufacturer: National Semiconductor; PackageTopMarking: ZXTT*X70C; PowerWise: Y; CompType: D/A Converter; Published: 1-Mar-2010; DatasheetVersion: Nov-2008; PackageVersion: revB, Jul-2003; PackageReference: MUB10A; Publisher: Altium Limited; PackageDescription: Mini-SO, Molded, .118 x .118 x .034in Body, 10 Lead, .0197in Pitch; Supplier 1: Digi-Key; Supplier Part Number 1: DAC084S085CIMMTR-ND; Supplier 2: Digi-Key; Supplier Part Number 2: DAC084S085CIMMCT-ND; Supplier 3: Digi-Key; Supplier Part Number 3: DAC084S085CIMMDKR-ND; Supplier 4: Farnell; Supplier Part Number 4: 1559240; RoHS: Y; PinCount: 10; Code_JEDEC: MO-187-BA; ComponentLink1Description: DAC084S085 Datasheet; ComponentLink1URL: http://www.national.com/ds/DA/DAC084S085.pdf; ComponentLink2Description: DAC084S085 Web Page; ComponentLink2URL: http://www.national.com/pf/DA/DAC084S085.html; ComponentLink3Description: MUB10A Package Page; ComponentLink3URL: http://www.national.com/packaging/folders/mub10a.html
footprint MUB10A_N (TSSOP, 10-Leads, Body 3x3mm, Pitch 0.5mm, IPC Medium Density)
footprint MUB10A_L (TSSOP, 10-Leads, Body 3x3mm, Pitch 0.5mm, IPC High Density)
footprint MUB10A_M (TSSOP, 10-Leads, Body 3x3mm, Pitch 0.5mm, IPC Low Density)
pins: 1 VA (power), 2 VOUTA (out), 3 VOUTB (out), 4 VOUTC (out), 5 VOUTD (out), 6 GND (power), 7 VREFIN (power), 8 DIN (in), 9 ~{SYNC} (in), 10 SCLK (in)

## DAC084S085CIMMX
designator U?
8-Bit Micro Power QUAD Digital-to-Analog Converter with Rail-to-Rail Output, 10-pin Mini SOIC; PartNumber: DAC084S085CIMMX; Manufacturer: National Semiconductor; PackageTopMarking: ZXTT*X70C; PowerWise: Y; CompType: D/A Converter; Published: 1-Mar-2010; DatasheetVersion: Nov-2008; PackageVersion: revB, Jul-2003; PackageReference: MUB10A; Publisher: Altium Limited; PackageDescription: Mini-SO, Molded, .118 x .118 x .034in Body, 10 Lead, .0197in Pitch; RoHS: N; PinCount: 10; Code_JEDEC: MO-187-BA; ComponentLink1Description: DAC084S085 Datasheet; ComponentLink1URL: http://www.national.com/ds/DA/DAC084S085.pdf; ComponentLink2Description: DAC084S085 Web Page; ComponentLink2URL: http://www.national.com/pf/DA/DAC084S085.html; ComponentLink3Description: MUB10A Package Page; ComponentLink3URL: http://www.national.com/packaging/folders/mub10a.html
footprint MUB10A_N (TSSOP, 10-Leads, Body 3x3mm, Pitch 0.5mm, IPC Medium Density)
footprint MUB10A_L (TSSOP, 10-Leads, Body 3x3mm, Pitch 0.5mm, IPC High Density)
footprint MUB10A_M (TSSOP, 10-Leads, Body 3x3mm, Pitch 0.5mm, IPC Low Density)
pins: 1 VA (power), 2 VOUTA (out), 3 VOUTB (out), 4 VOUTC (out), 5 VOUTD (out), 6 GND (power), 7 VREFIN (power), 8 DIN (in), 9 ~{SYNC} (in), 10 SCLK (in)

## DAC084S085CIMMX/NOPB
designator U?
8-Bit Micro Power QUAD Digital-to-Analog Converter with Rail-to-Rail Output, 10-pin Mini SOIC, Pb-Free; PartNumber: DAC084S085CIMMX/NOPB; Manufacturer: National Semiconductor; PackageTopMarking: ZXTT*X70C; PowerWise: Y; CompType: D/A Converter; Published: 1-Mar-2010; DatasheetVersion: Nov-2008; PackageVersion: revB, Jul-2003; PackageReference: MUB10A; Publisher: Altium Limited; PackageDescription: Mini-SO, Molded, .118 x .118 x .034in Body, 10 Lead, .0197in Pitch; Supplier 1: Digi-Key; Supplier Part Number 1: DAC084S085CIMMX-ND; RoHS: Y; PinCount: 10; Code_JEDEC: MO-187-BA; ComponentLink1Description: DAC084S085 Datasheet; ComponentLink1URL: http://www.national.com/ds/DA/DAC084S085.pdf; ComponentLink2Description: DAC084S085 Web Page; ComponentLink2URL: http://www.national.com/pf/DA/DAC084S085.html; ComponentLink3Description: MUB10A Package Page; ComponentLink3URL: http://www.national.com/packaging/folders/mub10a.html
footprint MUB10A_N (TSSOP, 10-Leads, Body 3x3mm, Pitch 0.5mm, IPC Medium Density)
footprint MUB10A_L (TSSOP, 10-Leads, Body 3x3mm, Pitch 0.5mm, IPC High Density)
footprint MUB10A_M (TSSOP, 10-Leads, Body 3x3mm, Pitch 0.5mm, IPC Low Density)
pins: 1 VA (power), 2 VOUTA (out), 3 VOUTB (out), 4 VOUTC (out), 5 VOUTD (out), 6 GND (power), 7 VREFIN (power), 8 DIN (in), 9 ~{SYNC} (in), 10 SCLK (in)

## DAC084S085CISD
designator U?
8-Bit Micro Power QUAD Digital-to-Analog Converter with Rail-to-Rail Output, 11-pin LLP; PartNumber: DAC084S085CISD; Manufacturer: National Semiconductor; PackageTopMarking: ZXYTT*X71C; PowerWise: Y; CompType: D/A Converter; Published: 4-Dec-2008; DatasheetVersion: Nov-2008; PackageVersion: revA, Oct-2003; PackageReference: SDA10A; Publisher: Altium Limited; PackageDescription: LLP, Plastic, Dual, 3 x 3 x 0.8mm Body, 10 Lead, 0.5mm Pitch, No Pullback; RoHS: N; PinCount: 11; ComponentLink1Description: DAC084S085 Datasheet; ComponentLink1URL: http://www.national.com/ds/DA/DAC084S085.pdf; ComponentLink2Description: DAC084S085 Web Page; ComponentLink2URL: http://www.national.com/pf/DA/DAC084S085.html; ComponentLink3Description: SDA10A Package Page; ComponentLink3URL: http://www.national.com/packaging/folders/sda10a.html
footprint SDA10A (SON, 10-Leads, Body 3x3 mm, Pitch 0.5mm, NSC Recommended)
pins: 1 VA (power), 2 VOUTA (out), 3 VOUTB (out), 4 VOUTC (out), 5 VOUTD (out), 6 GND (power), 7 VREFIN (power), 8 DIN (in), 9 ~{SYNC} (in), 10 SCLK (in), 11 DAP (power)

## DAC084S085CISD/NOPB
designator U?
8-Bit Micro Power QUAD Digital-to-Analog Converter with Rail-to-Rail Output, 10-pin LLP, Pb-Free; PartNumber: DAC084S085CISD/NOPB; Manufacturer: National Semiconductor; PackageTopMarking: ZXYTT*X71C; PowerWise: Y; CompType: D/A Converter; Published: 1-Mar-2010; DatasheetVersion: Nov-2008; PackageVersion: revA, Oct-2003; PackageReference: SDA10A; Publisher: Altium Limited; PackageDescription: LLP, Plastic, Dual, 3 x 3 x 0.8mm Body, 10 Lead, 0.5mm Pitch, No Pullback; Supplier 1: Digi-Key; Supplier Part Number 1: DAC084S085CISDTR-ND; Supplier 2: Digi-Key; Supplier Part Number 2: DAC084S085CISDCT-ND; Supplier 3: Digi-Key; Supplier Part Number 3: DAC084S085CISDDKR-ND; RoHS: Y; PinCount: 10; ComponentLink1Description: DAC084S085 Datasheet; ComponentLink1URL: http://www.national.com/ds/DA/DAC084S085.pdf; ComponentLink2Description: DAC084S085 Web Page; ComponentLink2URL: http://www.national.com/pf/DA/DAC084S085.html; ComponentLink3Description: SDA10A Package Page; ComponentLink3URL: http://www.national.com/packaging/folders/sda10a.html
footprint SDA10A (SON, 10-Leads, Body 3x3 mm, Pitch 0.5mm, NSC Recommended)
pins: 1 VA (power), 2 VOUTA (out), 3 VOUTB (out), 4 VOUTC (out), 5 VOUTD (out), 6 GND (power), 7 VREFIN (power), 8 DIN (in), 9 ~{SYNC} (in), 10 SCLK (in), 11 DAP (power)

## DAC084S085CISDX
designator U?
8-Bit Micro Power QUAD Digital-to-Analog Converter with Rail-to-Rail Output, 10-pin LLP; PartNumber: DAC084S085CISDX; Manufacturer: National Semiconductor; PackageTopMarking: ZXYTT*X71C; PowerWise: N; CompType: D/A Converter; Published: 1-Mar-2010; DatasheetVersion: Nov-2008; PackageVersion: revA, Oct-2003; PackageReference: SDA10A; Publisher: Altium Limited; PackageDescription: LLP, Plastic, Dual, 3 x 3 x 0.8mm Body, 10 Lead, 0.5mm Pitch, No Pullback; RoHS: N; PinCount: 10; ComponentLink1Description: DAC084S085 Datasheet; ComponentLink1URL: http://www.national.com/ds/DA/DAC084S085.pdf; ComponentLink2Description: DAC084S085 Web Page; ComponentLink2URL: http://www.national.com/pf/DA/DAC084S085.html; ComponentLink3Description: SDA10A Package Page; ComponentLink3URL: http://www.national.com/packaging/folders/sda10a.html
footprint SDA10A (SON, 10-Leads, Body 3x3 mm, Pitch 0.5mm, NSC Recommended)
pins: 1 VA (power), 2 VOUTA (out), 3 VOUTB (out), 4 VOUTC (out), 5 VOUTD (out), 6 GND (power), 7 VREFIN (power), 8 DIN (in), 9 ~{SYNC} (in), 10 SCLK (in), 11 DAP (power)

## DAC084S085CISDX/NOPB
designator U?
8-Bit Micro Power QUAD Digital-to-Analog Converter with Rail-to-Rail Output, 10-pin LLP, Pb-Free; PartNumber: DAC084S085CISDX/NOPB; Manufacturer: National Semiconductor; PackageTopMarking: ZXYTT*X71C; PowerWise: N; CompType: D/A Converter; Published: 1-Mar-2010; DatasheetVersion: Nov-2008; PackageVersion: revA, Oct-2003; PackageReference: SDA10A; Publisher: Altium Limited; PackageDescription: LLP, Plastic, Dual, 3 x 3 x 0.8mm Body, 10 Lead, 0.5mm Pitch, No Pullback; Supplier 1: Digi-Key; Supplier Part Number 1: DAC084S085CISDX-ND; RoHS: Y; PinCount: 10; ComponentLink1Description: DAC084S085 Datasheet; ComponentLink1URL: http://www.national.com/ds/DA/DAC084S085.pdf; ComponentLink2Description: DAC084S085 Web Page; ComponentLink2URL: http://www.national.com/pf/DA/DAC084S085.html; ComponentLink3Description: SDA10A Package Page; ComponentLink3URL: http://www.national.com/packaging/folders/sda10a.html
footprint SDA10A (SON, 10-Leads, Body 3x3 mm, Pitch 0.5mm, NSC Recommended)
pins: 1 VA (power), 2 VOUTA (out), 3 VOUTB (out), 4 VOUTC (out), 5 VOUTD (out), 6 GND (power), 7 VREFIN (power), 8 DIN (in), 9 ~{SYNC} (in), 10 SCLK (in), 11 DAP (power)

## DAC088S085CIMT
designator U?
8-Bit Micro Power OCTAL Digital-to-Analog Converter with Rail-to-Rail Outputs, 16-pin TSSOP; PartNumber: DAC088S085CIMT; Manufacturer: National Semiconductor; PackageTopMarking: ZXTT*X82C; PowerWise: Y; CompType: D/A Converter; Published: 4-Dec-2008; DatasheetVersion: Sep-2007; PackageVersion: revD, Jun-2003; PackageReference: MTC16; Publisher: Altium Limited; PackageDescription: Molded TSSOP, Jedec, 5 x 4.4 x 0.9mm Body, 16 Lead, 0.65mm Pitch; RoHS: N; PinCount: 16; Code_JEDEC: MO-153-AB; ComponentLink1Description: DAC088S085 Datasheet; ComponentLink1URL: http://www.national.com/ds/DA/DAC088S085.pdf; ComponentLink2Description: DAC088S085 Web Page; ComponentLink2URL: http://www.national.com/pf/DA/DAC088S085.html; ComponentLink3Description: MTC16 Package Page; ComponentLink3URL: http://www.national.com/packaging/folders/mtc16.html
footprint MTC16_N (TSOP, 16-Leads, Body 5x4.4mm, Pitch 0.65mm, IPC Medium Density)
footprint MTC16_L (TSOP, 16-Leads, Body 5x4.4mm, Pitch 0.65mm, IPC High Density)
footprint MTC16_M (TSOP, 16-Leads, Body 5x4.4mm, Pitch 0.65mm, IPC Low Density)
pins: 1 DIN (in), 2 DOUT (out), 3 VOUTA (out), 4 VOUTB (out), 5 VOUTC (out), 6 VOUTD (out), 7 VA (power), 8 VREF1 (power), 9 VREF2 (power), 10 GND (power), 11 VOUTH (out), 12 VOUTG (out), 13 VOUTF (out), 14 VOUTE (out), 15 ~{SYNC} (in), 16 SCLK (in)

## DAC088S085CIMT/NOPB
designator U?
8-Bit Micro Power OCTAL Digital-to-Analog Converter with Rail-to-Rail Outputs, 16-pin TSSOP, Pb-Free; PartNumber: DAC088S085CIMT/NOPB; Manufacturer: National Semiconductor; PackageTopMarking: ZXTT*X82C; PowerWise: Y; CompType: D/A Converter; Published: 1-Mar-2010; DatasheetVersion: Sep-2007; PackageVersion: revD, Jun-2003; PackageReference: MTC16; Publisher: Altium Limited; PackageDescription: Molded TSSOP, Jedec, 5 x 4.4 x 0.9mm Body, 16 Lead, 0.65mm Pitch; Supplier 1: Digi-Key; Supplier Part Number 1: DAC088S085CIMT-ND; RoHS: Y; PinCount: 16; Code_JEDEC: MO-153-AB; ComponentLink1Description: DAC088S085 Datasheet; ComponentLink1URL: http://www.national.com/ds/DA/DAC088S085.pdf; ComponentLink2Description: DAC088S085 Web Page; ComponentLink2URL: http://www.national.com/pf/DA/DAC088S085.html; ComponentLink3Description: MTC16 Package Page; ComponentLink3URL: http://www.national.com/packaging/folders/mtc16.html
footprint MTC16_N (TSOP, 16-Leads, Body 5x4.4mm, Pitch 0.65mm, IPC Medium Density)
footprint MTC16_L (TSOP, 16-Leads, Body 5x4.4mm, Pitch 0.65mm, IPC High Density)
footprint MTC16_M (TSOP, 16-Leads, Body 5x4.4mm, Pitch 0.65mm, IPC Low Density)
pins: 1 DIN (in), 2 DOUT (out), 3 VOUTA (out), 4 VOUTB (out), 5 VOUTC (out), 6 VOUTD (out), 7 VA (power), 8 VREF1 (power), 9 VREF2 (power), 10 GND (power), 11 VOUTH (out), 12 VOUTG (out), 13 VOUTF (out), 14 VOUTE (out), 15 ~{SYNC} (in), 16 SCLK (in)

## DAC088S085CIMTX
designator U?
8-Bit Micro Power OCTAL Digital-to-Analog Converter with Rail-to-Rail Outputs, 16-pin TSSOP; PartNumber: DAC088S085CIMTX; Manufacturer: National Semiconductor; PackageTopMarking: ZXTT*X82C; PowerWise: Y; CompType: D/A Converter; Published: 1-Mar-2010; DatasheetVersion: Sep-2007; PackageVersion: revD, Jun-2003; PackageReference: MTC16; Publisher: Altium Limited; PackageDescription: Molded TSSOP, Jedec, 5 x 4.4 x 0.9mm Body, 16 Lead, 0.65mm Pitch; RoHS: N; PinCount: 16; Code_JEDEC: MO-153-AB; ComponentLink1Description: DAC088S085 Datasheet; ComponentLink1URL: http://www.national.com/ds/DA/DAC088S085.pdf; ComponentLink2Description: DAC088S085 Web Page; ComponentLink2URL: http://www.national.com/pf/DA/DAC088S085.html; ComponentLink3Description: MTC16 Package Page; ComponentLink3URL: http://www.national.com/packaging/folders/mtc16.html
footprint MTC16_N (TSOP, 16-Leads, Body 5x4.4mm, Pitch 0.65mm, IPC Medium Density)
footprint MTC16_L (TSOP, 16-Leads, Body 5x4.4mm, Pitch 0.65mm, IPC High Density)
footprint MTC16_M (TSOP, 16-Leads, Body 5x4.4mm, Pitch 0.65mm, IPC Low Density)
pins: 1 DIN (in), 2 DOUT (out), 3 VOUTA (out), 4 VOUTB (out), 5 VOUTC (out), 6 VOUTD (out), 7 VA (power), 8 VREF1 (power), 9 VREF2 (power), 10 GND (power), 11 VOUTH (out), 12 VOUTG (out), 13 VOUTF (out), 14 VOUTE (out), 15 ~{SYNC} (in), 16 SCLK (in)

## DAC088S085CIMTX/NOPB
designator U?
8-Bit Micro Power OCTAL Digital-to-Analog Converter with Rail-to-Rail Outputs, 16-pin TSSOP, Pb-Free; PartNumber: DAC088S085CIMTX/NOPB; Manufacturer: National Semiconductor; PackageTopMarking: ZXTT*X82C; PowerWise: Y; CompType: D/A Converter; Published: 1-Mar-2010; DatasheetVersion: Sep-2007; PackageVersion: revD, Jun-2003; PackageReference: MTC16; Publisher: Altium Limited; PackageDescription: Molded TSSOP, Jedec, 5 x 4.4 x 0.9mm Body, 16 Lead, 0.65mm Pitch; Supplier 1: Digi-Key; Supplier Part Number 1: DAC088S085CIMTX-ND; RoHS: Y; PinCount: 16; Code_JEDEC: MO-153-AB; ComponentLink1Description: DAC088S085 Datasheet; ComponentLink1URL: http://www.national.com/ds/DA/DAC088S085.pdf; ComponentLink2Description: DAC088S085 Web Page; ComponentLink2URL: http://www.national.com/pf/DA/DAC088S085.html; ComponentLink3Description: MTC16 Package Page; ComponentLink3URL: http://www.national.com/packaging/folders/mtc16.html
footprint MTC16_N (TSOP, 16-Leads, Body 5x4.4mm, Pitch 0.65mm, IPC Medium Density)
footprint MTC16_L (TSOP, 16-Leads, Body 5x4.4mm, Pitch 0.65mm, IPC High Density)
footprint MTC16_M (TSOP, 16-Leads, Body 5x4.4mm, Pitch 0.65mm, IPC Low Density)
pins: 1 DIN (in), 2 DOUT (out), 3 VOUTA (out), 4 VOUTB (out), 5 VOUTC (out), 6 VOUTD (out), 7 VA (power), 8 VREF1 (power), 9 VREF2 (power), 10 GND (power), 11 VOUTH (out), 12 VOUTG (out), 13 VOUTF (out), 14 VOUTE (out), 15 ~{SYNC} (in), 16 SCLK (in)

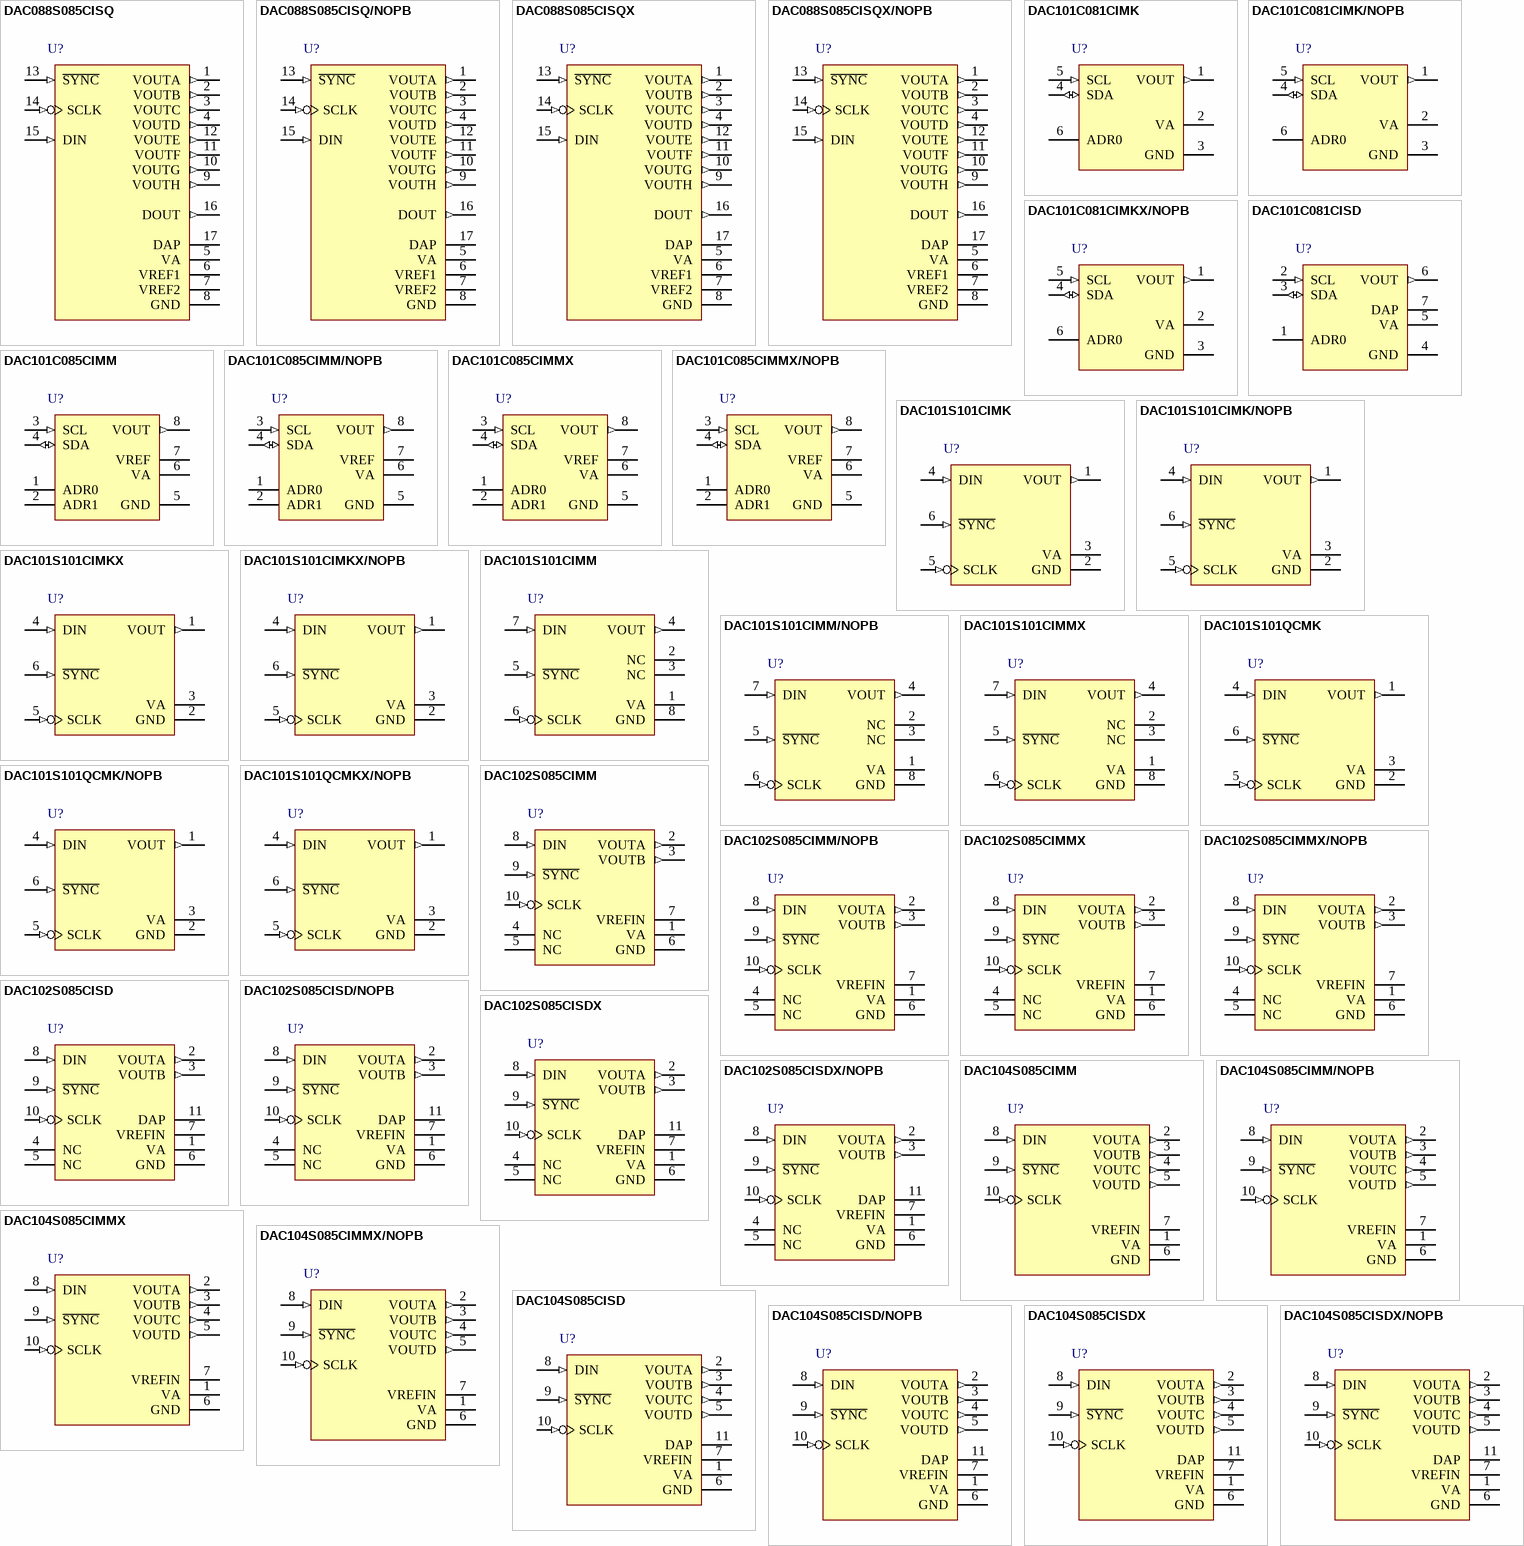
[diagram p1: symbols DAC088S085CISQ to DAC104S085CISDX/NOPB]